# Altium integrated library Grounded clock.IntLib: 54 symbols (part 1 of 2)
Pins are listed as number, name and electrical type; pins without a type are passive.

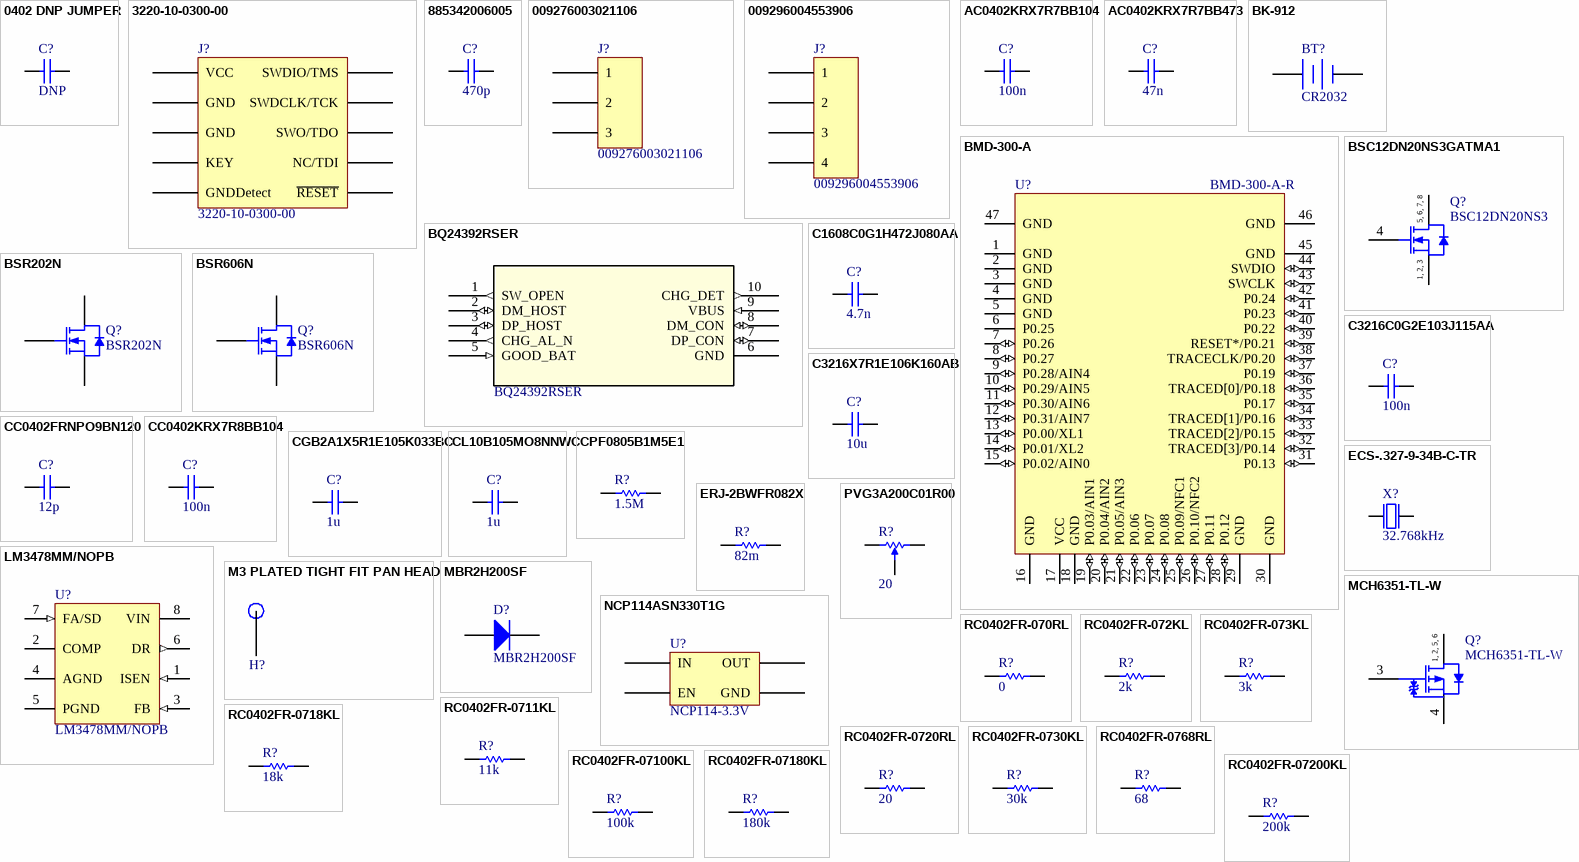
[diagram p0: symbols 0402 DNP JUMPER to RC0402FR-07200KL]

## 0402 DNP JUMPER
designator C?, comment DNP  (no BOM)
footprint CAPC0603(1608)100_N (Chip Capacitor, Body 1.6x0.8mm, Height 1.0mm, IPC Medium Density)
footprint CAPC0603(1608)100_M (Chip Capacitor, Body 1.6x0.8mm, Height 1.0mm, IPC Low Density)
footprint CAPC0603(1608)100_L (Chip Capacitor, Body 1.6x0.8mm, Height 1.0mm, IPC High Density)
pins: 1, 2

## 3220-10-0300-00
designator J?
IDC BOX HEADER 0.050 10 POS; Manufacturer: CNC Tech; Number of Positions: 10; Connector Type: Male Pin; Pitch: 0.05inch; Supplier 1: Digi-Key; Manufacturer Part Number: 3220-10-0300-00; Stock 1: 193314; Pricing 1: 1=0.74, 10=0.69, 100=0.529, 500=0.46, 3200=0.345, 6400=0.3335, 12800=0.3059 (USD); Mount: Surface Mount; Contact Plating: Gold; Package Quantity: 3200; Number of Rows: 2; Packaging: Tray; Termination: Solder; Row Spacing: 0.05inch; ComponentLink1URL: http://cnctech.us/idcmatching2.pdf; ComponentLink1Description: http://cnctech.us/idcmatching2.pdf; Supplier Part Number 1: 1175-1629-ND
footprint 3220-10-0300-00 (IDC BOX HEADER, SMT, 0.050" (1.27MM), 10 CONTACTS)
pins: 1 VCC, 2 SWDIO/TMS, 3 GND, 4 SWDCLK/TCK, 5 GND, 6 SWO/TDO, 7 KEY, 8 NC/TDI, 9 GNDDetect, 10 ~{RESET}

## 885342006005
designator C?, comment 470p
CAP CER 470PF 250V C0G/NP0 0603; Manufacturer: Wurth Electronics Inc.; Manufacturer Part Number: 885342006005; Tolerance: ±5%; Temperature Coefficient: C0G, NP0; Notification: Current market demand for these product types have resulted in fluctuating and extending lead times. Lead times may differ.; Supplier 1: Digi-Key; RoHS: RoHS Compliant; Category: Capacitors; Stock 1: 2818; Pricing 1: 1=0.1, 10=0.088, 100=0.0788, 500=0.0697 (USD); Packaging: Cut Tape (CT); Part Status: Active; Voltage - Rated: 250V; Operating Temperature: -55°C ~ 125°C; Features: -; Ratings: -; Applications: General Purpose; Failure Rate: -; Mounting Type: Surface Mount, MLCC; Package / Case: 0603 (1608 Metric); Size / Dimension: 0.063" L x 0.031" W (1.60mm x 0.80mm); Height - Seated (Max): -; Thickness (Max): 0.037" (0.95mm); Lead Spacing: -; Lead Style: -; ComponentLink1URL: https://katalog.we-online.de/pbs/datasheet/885342006005.pdf; ComponentLink1Description: https://katalog.we-online.de/pbs/datasheet/885342006005.pdf; Supplier Part Number 1: 732-12180-1-ND
footprint CAPC0603(1608)100_L (Chip Capacitor, Body 1.6x0.8mm, Height 1.0mm, IPC High Density)
footprint CAPC0603(1608)100_N (Chip Capacitor, Body 1.6x0.8mm, Height 1.0mm, IPC Medium Density)
footprint CAPC0603(1608)100_M (Chip Capacitor, Body 1.6x0.8mm, Height 1.0mm, IPC Low Density)
pins: 1, 2

## 009276003021106
designator J?
CONN TERM BLOCK 3 POS WTB; Manufacturer: Kyocera; Number of Contacts: 3; Voltage Rating: 250V; Current: 6A; Number of Levels: 1; Gender: Receptacle; Pitch: 2.5mm; Wire Gauge (Max): 24AWG; Wire Gauge (Min): 18AWG; Supplier 1: Digi-Key; Manufacturer Part Number: 009276003021106; Stock 1: 0; Mount: Surface Mount,Through Hole; Housing Colour: White; Contact Material: Copper,Copper Alloy; Contact Plating: Tin; Housing Material: Nylon; Colour: White; Min Operating Temperature: -40°C; Max Operating Temperature: 125°C; Number of Rows: 1; Termination: Solder; Orientation: Right Angle; Packaging: Tape and Reel; Package Quantity: 1; Number of Positions: 3; Voltage: 250V; Number of Positions Per Level: 3; Number of Circuits: 3; Max Supply Voltage (AC): 250V; Max Voltage Rating (AC): 250V; Length: 9mm; Height: 5mm; Depth: 9mm; Width: 7.5mm; Radiation Hardening: No; REACH SVHC: No SVHC; Lead Free: Lead Free; ComponentLink1URL: https://media.digikey.com/pdf/Data%20Sheets/AVX%20PDFs/00927600x021x06_Spec.PDF; ComponentLink1Description: https://media.digikey.com/pdf/Data%20Sheets/AVX%20PDFs/00927600x021x06_Spec.PDF; ComponentLink2URL: http://www.farnell.com/datasheets/2003050.pdf; ComponentLink2Description: http://www.farnell.com/datasheets/2003050.pdf; ComponentLink3URL: http://www.avx.com/docs/Catalogs/9276.pdf; ComponentLink3Description: http://www.avx.com/docs/Catalogs/9276.pdf; ComponentLink4URL: //media.digikey.com/pdf/Data%20Sheets/AVX%20PDFs/00927600x021x06_Spec.PDF; ComponentLink4Description: //media.digikey.com/pdf/Data%20Sheets/AVX%20PDFs/00927600x021x06_Spec.PDF; Supplier Part Number 1: 478-6170-1-ND
footprint 009276003021106 (CONN TERM BLOCK 3 POS WTB)
pins: 1, 2, 3

## 009296004553906
designator J?
Headers & Wire Housings 4WAY POKE HOME VERTICAL TOP MOUNT; Manufacturer: Kyocera AVX; Voltage Rating: 200V; Current Rating: 7A; Number of Positions: 4; Connector Type: Poke-In; Wire Gauge (Max): 26AWG; Wire Gauge (Min): 18AWG; Pitch: 4mm; Cable Pitch: 0.157inch; Supplier 1: Digi-Key; Manufacturer Part Number: 009296004553906; Stock 1: 2302; Pricing 1: 1=1.2, 10=1.057, 100=0.9123 (USD); Mount: Surface Mount; Colour: White; Contact Material: Copper Alloy; Contact Plating: Tin; Housing Material: Nylon; Min Operating Temperature: -40°C; Max Operating Temperature: 125°C; Packaging: Tape and Reel; Package Quantity: 400; Termination: SMD/SMT; Number of Rows: 1; Contact Gender: Female; Wire/Cable Gauge: 18AWG; Lead Free: Lead Free; Flammability Rating: UL94 V-0; ComponentLink1URL: http://datasheets.avx.com/PokeHomeVerticalTop_00-9296.pdf; ComponentLink1Description: http://datasheets.avx.com/PokeHomeVerticalTop_00-9296.pdf; Supplier Part Number 1: 478-9323-1-ND
footprint 009296004553906 (CONN 4POS SMD 18-26AWG)
pins: 1, 2, 3, 4

## AC0402KRX7R7BB104
designator C?, comment 100n
CAP CER 0.1UF 16V X7R 0402; Manufacturer: Yageo; Manufacturer Part Number: AC0402KRX7R7BB104; Tolerance: ±10%; Supplier 1: Digi-Key; RoHS: RoHS Compliant; Category: Capacitors; Stock 1: 29133; Pricing 1: 1=0.1, 10=0.068, 100=0.0304, 500=0.02174, 1000=0.01708, 2500=0.01553, 5000=0.01429 (USD); Packaging: Cut Tape (CT); Part Status: Active; Voltage - Rated: 16V; Temperature Coefficient: X7R; Operating Temperature: -55°C ~ 125°C; Features: -; Ratings: AEC-Q200; Applications: Automotive; Failure Rate: -; Mounting Type: Surface Mount, MLCC; Package / Case: 0402 (1005 Metric); Size / Dimension: 0.039" L x 0.020" W (1.00mm x 0.50mm); Height - Seated (Max): -; Thickness (Max): 0.022" (0.55mm); Lead Spacing: -; Lead Style: -; ComponentLink1URL: http://www.yageo.com/documents/recent/UPY-AC_NP0X7R_16V-to-630V_11.pdf; ComponentLink1Description: http://www.yageo.com/documents/recent/UPY-AC_NP0X7R_16V-to-630V_11.pdf; Supplier Part Number 1: 311-3026-1-ND
footprint CAPC0402(1005)60_N (Chip Capacitor, Body 1.0x0.5mm, Height 0.6mm, IPC Medium Density)
footprint CAPC0402(1005)60_M (Chip Capacitor, Body 1.0x0.5mm, Height 0.6mm, IPC Low Density)
footprint CAPC0402(1005)60_L (Chip Capacitor, Body 1.0x0.5mm, Height 0.6mm, IPC High Density)
pins: 1, 2

## AC0402KRX7R7BB473
designator C?, comment 47n
CAP CER 0.047UF 16V X7R 0402; Manufacturer: Yageo; Manufacturer Part Number: AC0402KRX7R7BB473; Tolerance: ±10%; Supplier 1: Digi-Key; RoHS: RoHS Compliant; Category: Capacitors; Stock 1: 7700; Pricing 1: 1=0.13, 10=0.093, 100=0.0416, 500=0.0297, 1000=0.02334, 2500=0.02122, 5000=0.01952 (USD); Packaging: Cut Tape (CT); Part Status: Active; Voltage - Rated: 16V; Temperature Coefficient: X7R; Operating Temperature: -55°C ~ 125°C; Features: -; Ratings: AEC-Q200; Applications: Automotive; Failure Rate: -; Mounting Type: Surface Mount, MLCC; Package / Case: 0402 (1005 Metric); Size / Dimension: 0.039" L x 0.020" W (1.00mm x 0.50mm); Height - Seated (Max): -; Thickness (Max): 0.022" (0.55mm); Lead Spacing: -; Lead Style: -; ComponentLink1URL: http://www.yageo.com/documents/recent/UPY-AC_NP0X7R_16V-to-630V_11.pdf; ComponentLink1Description: http://www.yageo.com/documents/recent/UPY-AC_NP0X7R_16V-to-630V_11.pdf; Supplier Part Number 1: 311-3064-1-ND
footprint CAPC0402(1005)60_N (Chip Capacitor, Body 1.0x0.5mm, Height 0.6mm, IPC Medium Density)
footprint CAPC0402(1005)60_M (Chip Capacitor, Body 1.0x0.5mm, Height 0.6mm, IPC Low Density)
footprint CAPC0402(1005)60_L (Chip Capacitor, Body 1.0x0.5mm, Height 0.6mm, IPC High Density)
pins: 1, 2

## BK-912
designator BT?, comment CR2032
BATTERY RETAINER COIN 20MM SMD; Manufacturer: Memory Protection Devices; Manufacturer Part Number: BK-912-TR; Number of Cells: 1; Supplier 1: Digi-Key; Stock 1: 39032; Pricing 1: 1=0.73, 10=0.661, 100=0.5138 (USD); Mount: PCB,Surface Mount; Case/Package: SMD/SMT; Package Quantity: 700; Termination: SMD/SMT; ComponentLink1URL: https://media.digikey.com/pdf/Data%20Sheets/Memory%20Protection%20PDFs/Coin_Cell_Guide.pdf; ComponentLink1Description: https://media.digikey.com/pdf/Data%20Sheets/Memory%20Protection%20PDFs/Coin_Cell_Guide.pdf; Supplier Part Number 1: BK-912-CT-ND
footprint BK-912
pins: 1 +, 2 -

## BMD-300-A
designator U?, comment Manufacturer P/N: BMD-300-A-R  (hidden comment: BMD-300)
Bluetooth 4.2 LE Module, nRF52832, 512kB Flash, 64kB RAM; Part Number: BMD-300-A; Manufacturer: Rigado; Internal Antenna: Yes; Protocol: BLE 4.2; RF Freq: 2.4GHz; Added By: Cam N; Size: 14mm x 9.8mm; Height: 1.9mm; Added Date: 10/14/2015
footprint BMD-300 (BMD-300, LGA, 47pin ,1.1mm Pitch, 14mm x 9.8mm)
pins: 1 GND (power), 2 GND (power), 3 GND (power), 4 GND (power), 5 GND (power), 6 P0.25 (power), 7 P0.26 (io), 8 P0.27 (io), 9 P0.28/AIN4 (io), 10 P0.29/AIN5 (io), 11 P0.30/AIN6 (io), 12 P0.31/AIN7 (io), 13 P0.00/XL1 (io), 14 P0.01/XL2 (io), 15 P0.02/AIN0 (io), 16 GND (power), 17 VCC (power), 18 GND (power), 19 P0.03/AIN1 (io), 20 P0.04/AIN2 (io), 21 P0.05/AIN3 (io), 22 P0.06 (io), 23 P0.07 (io), 24 P0.08 (io), 25 P0.09/NFC1 (io), 26 P0.10/NFC2 (io), 27 P0.11 (io), 28 P0.12 (io), 29 GND (power), 30 GND (power), 31 P0.13 (io), 32 TRACED[3]/P0.14 (io), 33 TRACED[2]/P0.15 (io), 34 TRACED[1]/P0.16 (io), 35 P0.17 (io), 36 TRACED[0]/P0.18 (io), 37 P0.19 (io), 38 TRACECLK/P0.20 (io), 39 RESET*/P0.21 (io), 40 P0.22 (io), 41 P0.23 (io), 42 P0.24 (io), 43 SWCLK (io), 44 SWDIO (io), 45 GND (power), 46 GND (power), 47 GND (power)

## BQ24392RSER
designator U?
SPST USB 2.0 High-Speed Switch With Battery Charging Detection; Vendor: Texas Instruments; Built_By: EMA_UL_Team; C: Copyright (C) 2016 Accelerated Designs. All rights reserved; Manufacturer_Part_Number: BQ24392RSER; Value: Value; Type: Type; RefDes: RefDes; Supplier 1: Digi-Key; Supplier Part Number 1: 296-37689-1-ND; Supplier 2: Mouser; Supplier Part Number 2: 595-BQ24392RSER
footprint QFN50P200X150X60-10N
pins: 1 SW_OPEN (out), 2 DM_HOST (io), 3 DP_HOST (io), 4 CHG_AL_N (out), 5 GOOD_BAT (in), 6 GND (power), 7 DP_CON (io), 8 DM_CON (io), 9 VBUS (in), 10 CHG_DET (out)

## BSC12DN20NS3GATMA1
designator Q?, comment BSC12DN20NS3
MOSFET N-CH 200V 11.3A; Manufacturer: Infineon; Manufacturer Part Number: BSC12DN20NS3GATMA1; Gate to Source Voltage (Vgs): 20V; Rise Time: 4ns; Turn-On Delay Time: 6ns; Turn-Off Delay Time: 10ns; Fall Time: 3ns; ComponentLink1Description: http://www.infineon.com/dgdl/BSC12DN20NS3+Rev2.2.pdf?folderId=db3a304325305e6d012596c6ca7b290a&fileId=db3a30432ad629a6012b146334d419ec; ComponentLink1URL: http://www.infineon.com/dgdl/BSC12DN20NS3+Rev2.2.pdf?folderId=db3a304325305e6d012596c6ca7b290a&fileId=db3a30432ad629a6012b146334d419ec; Supplier 1: Mouser; Stock 1: 394; Pricing 1: 1=1.17, 10=0.997, 50=0.997, 100=0.766, 1000=0.534, 10000=0.456 (USD); Mount: Surface Mount; Number of Pins: 8; Min Operating Temperature: -55°C; Max Operating Temperature: 150°C; Continuous Drain Current (ID): 11.3A; Max Dual Supply Voltage: 200V; Drain to Source Voltage (Vdss): 200V; Lead Free: Contains Lead; Halogen Free: Halogen Free; Supplier 2: Mouser; Supplier Part Number 1: 726-BSC12DN20NS3GATM; Supplier Part Number 2: 726-BSC12DN20NS3G
footprint INF-PG-TDSON-8-1_V (TDSON, 8-Leads, Body 6.15x5.15mm, Pitch 1.27mm)
pins: 1 SOURCE, 2 SOURCE, 3 SOURCE, 4 GATE, 5 DRAIN, 6 DRAIN, 7 DRAIN, 8 DRAIN
text: 5, 6, 7, 8; 1, 2, 3

## BSR202N
designator Q?
Trans MOSFET N-CH 20V 3.8A 3-Pin SC-59 T/R; Manufacturer: Infineon; Manufacturer Part Number: BSR202NL6327HTSA1; Gate to Source Voltage (Vgs): 12V; Rise Time: 16.7ns; ComponentLink1URL: http://www.infineon.com/dgdl/BSR202N_Rev1.05.pdf?folderId=db3a3043156fd573011622e10b5c1f67&fileId=db3a3043156fd573011622e5576e1f72; ComponentLink1Description: http://www.infineon.com/dgdl/BSR202N_Rev1.05.pdf?folderId=db3a3043156fd573011622e10b5c1f67&fileId=db3a3043156fd573011622e5576e1f72; Supplier 1: Digi-Key; Supplier Part Number 1: BSR202NL6327HTSA1CT-ND; Supplier 2: Mouser; Supplier Part Number 2: 726-BSR202NL6327; Stock 1: 17256; Pricing 1: 1=0.54, 10=0.455, 100=0.3416, 500=0.25052, 1000=0.19358 (USD); Mount: Surface Mount; Case/Package: SC; Number of Pins: 3; Contact Plating: Tin; Min Operating Temperature: -55°C; Max Operating Temperature: 150°C; Continuous Drain Current (ID): 3.8A; Drain to Source Voltage (Vdss): 20V; Max Dual Supply Voltage: 20V
footprint INF-PG-SC59_N (SOT23, 3-Leads, Body 3x1.53mm, Pitch 0.95mm, IPC Medium Density)
footprint INF-PG-SC59_M (SOT23, 3-Leads, Body 3x1.53mm, Pitch 0.95mm, IPC Low Density)
footprint INF-PG-SC59_L (SOT23, 3-Leads, Body 3x1.53mm, Pitch 0.95mm, IPC High Density)
pins: 1 GATE, 2 SOURCE, 3 DRAIN

## BSR606N
designator Q?
N-Channel OptiMOS(TM)-3 Small-Signal-Transistor, 60 V VDS, 2.3 A ID, -55 to 150 degC, PG-SC59, Reel, Green; Manufacturer: Infineon; Manufacturer Part Number: BSR606NH6327XTSA1; ID (max): 2.3Â A; IDpuls (max): 9.1Â A; RthJA (max): 250Â K/W; VDS (max): 60Â V; Green: TRUE; Polarity: FALSE; Ptot (max): 0.5Â W; VGS(th) (min): 1.3Â V; QG: 3.7Â nC; VGS(th) (max): 2.3Â V; Mode: Enhancement; Continuous Drain Current (ID): 2.3A; Drain to Source Voltage (Vdss): 60V; Drain to Source Resistance: 60mR; Max Power Dissipation: 500mW; Input Capacitance: 657pF; Number of Elements: 1; Threshold Voltage: 1.8V; Element Configuration: Single; Gate to Source Voltage (Vgs): 20V; ComponentLink2URL: http://www.infineon.com/dgdl/BSR606N_2+3.pdf?folderId=db3a3043156fd573011622e10b5c1f67&fileId=db3a30433e78ea82013e7ea9a659062b; PackageDescription: 3-Pin Semiconductor Package, 3 x 1.53 mm Body, 0.95 mm Pitch; ComponentLink1Description: Manufacturer URL; PackageVersion: Mar-08; Packing: Reel; PartNumber: BSR606N; DatasheetVersion: Rev. 2.3; ComponentLink1URL: http://www.infineon.com/; ComponentLink2Description: Datasheet; ComponentLink3Description: Package Specification; Mounting: SMD; Mounting Technology: Surface Mount; PackageReference: PG-SC59; ComponentLink3URL: http://www.infineon.com/dgdl/SC59-Package_Overview.pdf?folderId=db3a30431936bc4b01194dc0d34440b0&fileId=db3a30431936bc4b01194dd1aa1d40cf; Halogen-free: TRUE; Supplier 1: Digi-Key; Stock 1: 131; Pricing 1: 1=0.61, 10=0.517, 100=0.3875, 500=0.28416, 1000=0.21958 (USD); Mount: Surface Mount; Case/Package: SC; Number of Pins: 59; Min Operating Temperature: -55°C; Max Operating Temperature: 150°C; Packaging: Tape and Reel; Package Quantity: 3000; Rds On Max: 60mR; Power Dissipation: 500mW; Max Dual Supply Voltage: 60V; REACH SVHC: No SVHC; Lead Free: Lead Free; Halogen Free: Halogen Free; Supplier Part Number 1: BSR606NH6327XTSA1CT-ND
footprint INF-PG-SC59_L (SOT23, 3-Leads, Body 3x1.53mm, Pitch 0.95mm, IPC High Density)
footprint INF-PG-SC59_M (SOT23, 3-Leads, Body 3x1.53mm, Pitch 0.95mm, IPC Low Density)
footprint INF-PG-SC59_N (SOT23, 3-Leads, Body 3x1.53mm, Pitch 0.95mm, IPC Medium Density)
pins: 1 GATE, 2 SOURCE, 3 DRAIN

## C1608C0G1H472J080AA
designator C?, comment 4.7n
CAP CER 4700PF 50V C0G 0603; Supplier 1: Digi-Key; Supplier 2: Mouser; Supplier Part Number 1: 445-7400-1-ND; Supplier Part Number 2: 810-C1608C0G1H472J
footprint CAPC0603(1608)100_N (Chip Capacitor, Body 1.6x0.8mm, Height 1.0mm, IPC Medium Density)
footprint CAPC0603(1608)100_M (Chip Capacitor, Body 1.6x0.8mm, Height 1.0mm, IPC Low Density)
footprint RESC0603(1608)_L (Chip Resistor, Body 1.6x0.8mm, IPC High Density)
pins: 1, 2

## C3216C0G2E103J115AA
designator C?, comment 100n
CAP CER 10000PF 250V C0G 1206; Manufacturer: TDK Corporation; Manufacturer Part Number: C3216C0G2E103J115AA; Tolerance: ±5%; Temperature Coefficient: C0G, NP0; Notification: Current market demand for these product types have resulted in fluctuating and extending lead times. Lead times may differ.; Supplier 1: Digi-Key; RoHS: RoHS Compliant; Category: Capacitors; Stock 1: 8104; Pricing 1: 1=0.62, 10=0.431, 100=0.2588, 500=0.19406, 1000=0.16388 (USD); Packaging: Cut Tape (CT); Part Status: Active; Voltage - Rated: 250V; Operating Temperature: -55°C ~ 125°C; Features: -; Ratings: -; Applications: General Purpose; Failure Rate: -; Mounting Type: Surface Mount, MLCC; Package / Case: 1206 (3216 Metric); Size / Dimension: 0.126" L x 0.063" W (3.20mm x 1.60mm); Height - Seated (Max): -; Thickness (Max): 0.051" (1.30mm); Lead Spacing: -; Lead Style: -; ComponentLink1URL: https://product.tdk.com/info/en/catalog/datasheets/mlcc_commercial_midvoltage_en.pdf; ComponentLink1Description: https://product.tdk.com/info/en/catalog/datasheets/mlcc_commercial_midvoltage_en.pdf; Supplier Part Number 1: 445-15417-1-ND
footprint CAPC1206(3216)110_L (Chip Capacitor, Body 3.2x1.6mm, Height 1.1mm, IPC High Density)
footprint CAPC1206(3216)110_M (Chip Capacitor, Body 3.2x1.6mm, Height 1.1mm, IPC Low Density)
footprint CAPC1206(3216)110_N (Chip Capacitor, Body 3.2x1.6mm, Height 1.1mm, IPC Medium Density)
pins: 1, 2

## C3216X7R1E106K160AB
designator C?, comment 10u
CAP CER 10UF 25V X7R 1206; Manufacturer: TDK Corporation; Manufacturer Part Number: C3216X7R1E106K160AB; Tolerance: ±10%; Notification: Current market demand for these product types have resulted in fluctuating and extending lead times. Lead times may differ.; Supplier 1: Digi-Key; RoHS: RoHS Compliant; Category: Capacitors; Stock 1: 20000; Pricing 1: 1=0.83, 10=0.589, 100=0.3881, 500=0.2875, 1000=0.24438 (USD); Packaging: Cut Tape (CT); Part Status: Active; Voltage - Rated: 25V; Temperature Coefficient: X7R; Operating Temperature: -55°C ~ 125°C; Features: Low ESL; Ratings: -; Applications: General Purpose; Failure Rate: -; Mounting Type: Surface Mount, MLCC; Package / Case: 1206 (3216 Metric); Size / Dimension: 0.126" L x 0.063" W (3.20mm x 1.60mm); Height - Seated (Max): -; Thickness (Max): 0.075" (1.90mm); Lead Spacing: -; Lead Style: -; ComponentLink1URL: https://product.tdk.com/info/en/catalog/datasheets/mlcc_commercial_general_en.pdf; ComponentLink1Description: https://product.tdk.com/info/en/catalog/datasheets/mlcc_commercial_general_en.pdf; Supplier Part Number 1: 445-7705-1-ND; Supplier 2: Mouser; Supplier Part Number 2: 810-C3216X7R1E106K
footprint CAPC1206(3216)190_L (Chip Capacitor, Body 3.2x1.6mm, Height 1.9mm, IPC High Density)
footprint CAPC1206(3216)190_M (Chip Capacitor, Body 3.2x1.6mm, Height 1.9mm, IPC Low Density)
footprint CAPC1206(3216)190_N (Chip Capacitor, Body 3.2x1.6mm, Height 1.9mm, IPC Medium Density)
pins: 1, 2

## CC0402FRNPO9BN120
designator C?, comment 12p
CAP CER 12PF 50V C0G/NPO 0402; Manufacturer: Yageo; Manufacturer Part Number: CC0402FRNPO9BN120; Tolerance: ±1%; Temperature Coefficient: C0G, NP0; Notification: Current market demand for these product types have resulted in fluctuating and extending lead times. Lead times may differ.; Supplier 1: Digi-Key; RoHS: RoHS Compliant; Category: Capacitors; Stock 1: 100000; Pricing 1: 1=0.14, 10=0.104, 100=0.0464, 500=0.03312, 1000=0.02603, 2500=0.02366, 5000=0.02177 (USD); Packaging: Cut Tape (CT); Part Status: Active; Voltage - Rated: 50V; Operating Temperature: -55°C ~ 125°C; Features: -; Ratings: -; Applications: General Purpose; Failure Rate: -; Mounting Type: Surface Mount, MLCC; Package / Case: 0402 (1005 Metric); Size / Dimension: 0.039" L x 0.020" W (1.00mm x 0.50mm); Height - Seated (Max): -; Thickness (Max): 0.022" (0.55mm); Lead Spacing: -; Lead Style: -; ComponentLink1URL: http://www.yageo.com/documents/recent/UPY-GP_NP0_16V-to-50V_16.pdf; ComponentLink1Description: http://www.yageo.com/documents/recent/UPY-GP_NP0_16V-to-50V_16.pdf; Supplier Part Number 1: 311-1641-1-ND
footprint CAPC0402(1005)60_N (Chip Capacitor, Body 1.0x0.5mm, Height 0.6mm, IPC Medium Density)
footprint CAPC0402(1005)60_M (Chip Capacitor, Body 1.0x0.5mm, Height 0.6mm, IPC Low Density)
footprint CAPC0402(1005)60_L (Chip Capacitor, Body 1.0x0.5mm, Height 0.6mm, IPC High Density)
pins: 1, 2

## CC0402KRX7R8BB104
designator C?, comment 100n
CAP CER 0.1UF 25V X7R 0402; Manufacturer: Yageo; Manufacturer Part Number: CC0402KRX7R8BB104; Tolerance: ±10%; Notification: Current market demand for these product types have resulted in fluctuating and extending lead times. Lead times may differ.; Supplier 1: Digi-Key; RoHS: RoHS Compliant; Category: Capacitors; Stock 1: 0; Pricing 1: 1=0.1, 10=0.048, 100=0.0215, 500=0.01534, 1000=0.01205, 2500=0.01095, 5000=0.01007 (USD); Packaging: Cut Tape (CT); Part Status: Active; Voltage - Rated: 25V; Temperature Coefficient: X7R; Operating Temperature: -55°C ~ 125°C; Features: -; Ratings: -; Applications: General Purpose; Failure Rate: -; Mounting Type: Surface Mount, MLCC; Package / Case: 0402 (1005 Metric); Size / Dimension: 0.039" L x 0.020" W (1.00mm x 0.50mm); Height - Seated (Max): -; Thickness (Max): 0.022" (0.55mm); Lead Spacing: -; Lead Style: -; ComponentLink1URL: http://www.yageo.com/documents/recent/UPY-GPHC_X7R_6.3V-to-50V_18.pdf; ComponentLink1Description: http://www.yageo.com/documents/recent/UPY-GPHC_X7R_6.3V-to-50V_18.pdf; Supplier Part Number 1: 311-2077-1-ND; Supplier 2: Mouser; Supplier Part Number 2: 603-CC402KRX7R8BB104
footprint CAPC0402(1005)33_L (Chip Capacitor, Body 1.0x0.5mm, Height 0.33mm, IPC High Density)
footprint CAPC0402(1005)33_M (Chip Capacitor, Body 1.0x0.5mm, Height 0.33mm, IPC Low Density)
footprint CAPC0402(1005)33_N (Chip Capacitor, Body 1.0x0.5mm, Height 0.33mm, IPC Medium Density)
pins: 1, 2

## CGB2A1X5R1E105K033BC
designator C?, comment 1u
CAP CER 1UF 25V X5R 0402; Supplier 1: Digi-Key; Supplier 2: Mouser; Supplier Part Number 1: 445-13185-1-ND; Supplier Part Number 2: 810-CGB2A1X5R1E105BC
footprint CAPC0402(1005)33_L (Chip Capacitor, Body 1.0x0.5mm, Height 0.33mm, IPC High Density)
footprint CAPC0402(1005)33_M (Chip Capacitor, Body 1.0x0.5mm, Height 0.33mm, IPC Low Density)
footprint CAPC0402(1005)33_N (Chip Capacitor, Body 1.0x0.5mm, Height 0.33mm, IPC Medium Density)
pins: 1, 2

## CL10B105MO8NNWC
designator C?, comment 1u
CAP CER 1UF 16V X7R 0603; Manufacturer: Samsung Electro-Mechanics; Manufacturer Part Number: CL10B105MO8NNWC; Tolerance: ±20%; Notification: Current market demand for these product types have resulted in fluctuating and extending lead times. Lead times may differ.; Supplier 1: Digi-Key; RoHS: RoHS Compliant; Category: Capacitors; Stock 1: 40000; Pricing 1: 1=0.1, 10=0.043, 100=0.0194, 500=0.01406, 1000=0.01121 (USD); Packaging: Cut Tape (CT); Part Status: Active; Voltage - Rated: 16V; Temperature Coefficient: X7R; Operating Temperature: -55°C ~ 125°C; Features: -; Ratings: -; Applications: General Purpose; Mounting Type: Surface Mount, MLCC; Package / Case: 0603 (1608 Metric); Size / Dimension: 0.063" L x 0.031" W (1.60mm x 0.80mm); Height - Seated (Max): -; Thickness (Max): 0.035" (0.90mm); Lead Spacing: -; Lead Style: -; ComponentLink1URL: http://www.samsungsem.com/kr/support/product-search/mlcc/CL10B105MO8NNWC.jsp; ComponentLink1Description: http://www.samsungsem.com/kr/support/product-search/mlcc/CL10B105MO8NNWC.jsp; Supplier Part Number 1: 1276-6524-1-ND
footprint CAPC0603(1608)100_L (Chip Capacitor, Body 1.6x0.8mm, Height 1.0mm, IPC High Density)
footprint CAPC0603(1608)100_M (Chip Capacitor, Body 1.6x0.8mm, Height 1.0mm, IPC Low Density)
footprint CAPC0603(1608)100_N (Chip Capacitor, Body 1.6x0.8mm, Height 1.0mm, IPC Medium Density)
pins: 1, 2

## CPF0805B1M5E1
designator R?, comment 1.5M
RES SMD 1.5M OHM 0.1% 1/10W 0805; Manufacturer: TE Connectivity Passive Product; Manufacturer Part Number: CPF0805B1M5E1; Power (Watts): 0.1W, 1/10W; Temperature Coefficient: ±25ppm/°C; Supplier 1: Digi-Key; RoHS: RoHS Compliant; Category: Resistors; Stock 1: 27374; Pricing 1: 1=0.55, 10=0.394, 100=0.2047 (USD); Packaging: Cut Tape (CT); Part Status: Active; Tolerance: ±0.1%; Composition: Thin Film; Features: -; Operating Temperature: -55°C ~ 155°C; Package / Case: 0805 (2012 Metric); Supplier Device Package: 0805; Size / Dimension: 0.079" L x 0.049" W (2.00mm x 1.25mm); Height - Seated (Max): 0.026" (0.65mm); Failure Rate: -; ComponentLink1URL: http://www.te.com/commerce/DocumentDelivery/DDEController?Action=srchrtrv&DocNm=1773200&DocType=DS&DocLang=English; ComponentLink1Description: http://www.te.com/commerce/DocumentDelivery/DDEController?Action=srchrtrv&DocNm=1773200&DocType=DS&DocLang=English; Supplier Part Number 1: A103799CT-ND; Supplier 2: Mouser; Supplier Part Number 2: 279-CPF0805B1M5E1
footprint RESC0805(2012)_L (Chip Resistor, Body 2.0x1.3mm, IPC High Density)
footprint RESC0805(2012)_N (Chip Resistor, Body 2.0x1.3mm, IPC Medium Density)
footprint RESC0805(2012)_M (Chip Resistor, Body 2.0x1.3mm, IPC Low Density)
pins: 1, 2

## ECS-.327-9-34B-C-TR
designator X?, comment 32.768kHz
CRYSTAL 32.7680KHZ 9PF SMD; Manufacturer: ECS International; Manufacturer Part Number: ECS-.327-9-34B-C-TR; Frequency Tolerance: 10ppm; ESR (Equivalent Series Resistance): 70kR; Supplier 1: Digi-Key; Supplier Part Number 1: XC1949CT-ND; Mount: Surface Mount; Case/Package: SMD/SMT; Number of Pins: 2; Min Operating Temperature: -40°C; Max Operating Temperature: 85°C; Load Capacitance: 9pF; Package Quantity: 3000; Packaging: Tape and Reel; Frequency: 32.768kHz; Termination: SMD/SMT; Frequency Stability: 10ppm; Length: 0.126inch; Height: 0.035inch; Width: 0.061inch; Lead Pitch: 2.4mm; ComponentLink1URL: http://www.ecsxtal.com/store/pdf/ecx-31b.pdf; ComponentLink1Description: http://www.ecsxtal.com/store/pdf/ecx-31b.pdf; Supplier 2: Mouser; Supplier Part Number 2: 520-ECS-.327-9-34BCT
footprint 3215 XTAL
pins: 1, 2

## ERJ-2BWFR082X
designator R?, comment 82m
RES 0.082 OHM 1% 1/4W 0402; Manufacturer: Panasonic Electronic Components; Manufacturer Part Number: ERJ-2BWFR082X; Power (Watts): 0.25W, 1/4W; Temperature Coefficient: ±300ppm/°C; Supplier 1: Digi-Key; Supplier 2: Mouser; Supplier Part Number 1: P.082ATCT-ND; Supplier Part Number 2: 667-ERJ-2BWFR082X; RoHS: RoHS Compliant; Category: Resistors; Stock 1: 24659; Pricing 1: 1=0.57, 10=0.436, 25=0.3316, 50=0.2464, 100=0.1832, 250=0.1548, 500=0.13268, 1000=0.10109, 5000=0.08529 (USD); Packaging: Cut Tape (CT); Part Status: Active; Tolerance: ±1%; Composition: Thick Film; Features: Current Sense; Operating Temperature: -55°C ~ 155°C; Package / Case: 0402 (1005 Metric); Supplier Device Package: 0402; Size / Dimension: 0.039" L x 0.020" W (1.00mm x 0.50mm); Height - Seated (Max): 0.016" (0.40mm); Failure Rate: -; ComponentLink1URL: https://industrial.panasonic.com/cdbs/www-data/pdf/RDN0000/AOA0000C313.pdf; ComponentLink1Description: https://industrial.panasonic.com/cdbs/www-data/pdf/RDN0000/AOA0000C313.pdf
footprint RESC0402(1005)_L (Chip Resistor, Body 1.0x0.5mm, IPC High Density)
footprint RESC0402(1005)_M (Chip Resistor, Body 1.0x0.5mm, IPC Low Density)
footprint RESC0402(1005)_N (Chip Resistor, Body 1.0x0.5mm, IPC Medium Density)
pins: 1, 2

## LM3478MM/NOPB
designator U?
TEXAS INSTRUMENTS   LM3478MM/NOPB.   N-CHANNEL CONTROLLER, MSOP-8, FULL REEL; Output Voltage: 1.26V; Output Current: 1A; Switching Frequency: 1MHz; Number of Outputs: 1; Max Duty Cycle: 100%; Quiescent Current: 2.7mA; Frequency: 400kHz; Min Supply Voltage: 2.97V; Max Supply Voltage: 40V; Max Output Current: 2A; Topology: Boost,Flyback; Max Output Voltage: 5V; Output Type: Adjustable; ComponentLink1Description: https://www.verical.com/server-webapp/html/getDatasheet?partID=123464; Manufacturer: Texas Instruments; ComponentLink1URL: https://www.verical.com/server-webapp/html/getDatasheet?partID=123464; Supplier 1: Digi-Key; Supplier Part Number 1: LM3478MM/NOPBCT-ND; Supplier 2: Mouser; Supplier Part Number 2: 926-LM3478MM/NOPB; Manufacturer Part Number: LM3478MM/NOPB; Stock 1: 61350; Pricing 1: 1=2.21, 10=1.982, 100=1.5928, 500=1.30862 (USD); Mount: Surface Mount; Case/Package: MSOP; Number of Pins: 8; Contact Plating: Matte,Tin; Min Operating Temperature: -40°C; Max Operating Temperature: 125°C; Packaging: Tape and Reel; Package Quantity: 1000; Max Frequency: 1MHz; Duty Cycle: 100%; Max Input Voltage: 40V; Min Input Voltage: 2.97V; Termination: SMD/SMT; Length: 3mm; Height: 0.86mm; Width: 3mm; Radiation Hardening: No; Lead Free: Lead Free; REACH SVHC: No SVHC; ComponentLink2URL: http://www.ti.com/general/docs/lit/getliterature.tsp?genericPartNumber=LM3478&fileType=pdf; ComponentLink2Description: http://www.ti.com/general/docs/lit/getliterature.tsp?genericPartNumber=LM3478&fileType=pdf; ComponentLink3URL: http://www.ti.com/lit/ds/symlink/lm3478.pdf; ComponentLink3Description: http://www.ti.com/lit/ds/symlink/lm3478.pdf; ComponentLink4URL: https://www.distrelec.com/ishop/Datasheets/lm3478_eng_tds.pdf; ComponentLink4Description: https://www.distrelec.com/ishop/Datasheets/lm3478_eng_tds.pdf
footprint DGK0008A_N (TSOP, 8-Leads, Body 3.1x3.1mm, Pitch 0.65mm, IPC Medium Density)
footprint DGK0008A_M (TSOP, 8-Leads, Body 3.1x3.1mm, Pitch 0.65mm, IPC Low Density)
footprint DGK0008A_L (TSOP, 8-Leads, Body 3.1x3.1mm, Pitch 0.65mm, IPC High Density)
pins: 1 ISEN (in), 2 COMP, 3 FB (in), 4 AGND (power), 5 PGND (power), 6 DR (out), 7 FA/SD (in), 8 VIN (power)

## M3 PLATED TIGHT FIT PAN HEAD
designator H?  (value not drawn)  (no BOM)
M3 x 0.5mm plated tight fit pan head
footprint M3 PLATED TIGHT PAN HEAD (M3 x 0.5mm plated tight fit pan head)
pins: 1

## MBR2H200SF
designator D?
DIODE SCHOTTKY 200V 2A SOD123; Supplier 1: Digi-Key; Supplier 2: Mouser; Supplier Part Number 1: MBR2H200SFT3GOSCT-ND; Supplier Part Number 2: 863-MBR2H200SFT1G
footprint SOD-123FL; pin to pad 1>A 2>K
pins: 1 A, 2 K

## MCH6351-TL-W
designator Q?
MOSFET PCH 1.8V DRIVE SERIES; Manufacturer: ON Semiconductor; Rise Time: 89ns; Drain to Source Voltage (Vdss): 12V; Continuous Drain Current (ID): 9A; Rds On Max: 16.9mR; Input Capacitance: 2.2nF; Max Power Dissipation: 1.5W; Number of Channels: 1; Turn-On Delay Time: 12.3ns; Turn-Off Delay Time: 260ns; Fall Time: 122ns; Drain to Source Breakdown Voltage: -12V; Gate to Source Voltage (Vgs): 10V; Element Configuration: Single; ComponentLink2Description: http://www.mouser.com/ds/2/308/ENA2198-D-278502.pdf; ComponentLink1Description: http://www.onsemi.com/pub_link/Collateral/ENA2198-D.PDF; ComponentLink1URL: http://www.onsemi.com/pub_link/Collateral/ENA2198-D.PDF; ComponentLink2URL: http://www.mouser.com/ds/2/308/ENA2198-D-278502.pdf; Supplier 1: Digi-Key; Supplier Part Number 1: MCH6351-TL-WOSCT-ND; Supplier 2: Mouser; Supplier Part Number 2: 863-MCH6351-TL-W; Manufacturer Part Number: MCH6351-TL-W; Stock 1: 2960; Pricing 1: 1=0.59, 10=0.499, 100=0.3739, 500=0.27418, 1000=0.21187 (USD); Case/Package: SMD/SMT; Number of Pins: 6; Weight: 0.000265oz; Min Operating Temperature: -55°C; Max Operating Temperature: 150°C; Package Quantity: 3000; Packaging: Tape and Reel; Drain to Source Resistance: 16.9mR; Radiation Hardening: No; Lead Free: Lead Free; Halogen Free: Halogen Free
footprint SOT23-6P65_210X90L25X32
pins: 1 D, 2 D, 3 G, 4 S, 5 D, 6 D
text: 1, 2, 5, 6

## NCP114ASN330T1G
designator U?, comment NCP114-3.3V
IC REG LINEAR 3.3V 300MA 5TSOP; Manufacturer: ON Semiconductor; Manufacturer Part Number: NCP114ASN330T1G; Supplier 1: Digi-Key; Supplier Part Number 1: NCP114ASN330T1GOSCT-ND; Stock 1: 16190; Pricing 1: 1=0.35, 10=0.264, 100=0.1493, 500=0.09888, 1000=0.07581 (USD); Output Current: 300mA; Lead Free: Lead Free; Supplier 2: Mouser; Supplier Part Number 2: 863-NCP114ASN330T1G
footprint TSOP-5 (SOP, 5-Leads, Body 3x1.5mm, Pitch 0.95mm)
pins: 1 IN, 2 GND, 3 EN, 5 OUT

## PVG3A200C01R00
designator R?, comment 20
TRIMMER 20 OHM 0.25W J LEAD TOP; Manufacturer: Bourns Inc.; Manufacturer Part Number: PVG3A200C01R00; Power (Watts): 0.25W, 1/4W; Tolerance: ±20%; Temperature Coefficient: ±150ppm/°C; Adjustment Type: Top Adjustment; Resistive Material: Cermet; Supplier 1: Digi-Key; RoHS: RoHS Compliant; Category: Potentiometers, Variable Resistors; Stock 1: 42863; Pricing 1: 1=1.57, 10=1.386, 25=1.2476, 50=1.2012, 100=1.155, 250=1.08572, 500=0.924 (USD); Packaging: Cut Tape (CT); Part Status: Active; Mounting Type: Surface Mount; Termination Style: J Lead; Size / Dimension: Rectangular - 0.142" x 0.134" Face x 0.079" H (3.60mm x 3.40mm x 2.00mm); ComponentLink1URL: https://www.bourns.com/docs/Product-Datasheets/pvg3.pdf; ComponentLink1Description: https://www.bourns.com/docs/Product-Datasheets/pvg3.pdf; Supplier Part Number 1: 490-2647-1-ND
footprint PVG3A (SMD Sealed Type Single-Turn PVG3)
pins: 1, 2, 3

## RC0402FR-070RL
designator R?, comment 0
RES SMD 0 OHM JUMPER 1/16W 0402; Manufacturer: Yageo; Manufacturer Part Number: RC0402FR-070RL; Power (Watts): 0.063W, 1/16W; Supplier 1: Digi-Key; RoHS: RoHS Compliant; Category: Resistors; Stock 1: 0; Pricing 1: 1=0.1, 10=0.016, 25=0.0116, 50=0.0088, 100=0.0065, 250=0.00496, 500=0.00396, 1000=0.00292, 5000=0.00209 (USD); Packaging: Cut Tape (CT); Part Status: Active; Tolerance: Jumper; Composition: Thick Film; Features: Moisture Resistant; Temperature Coefficient: -; Operating Temperature: -55°C ~ 155°C; Package / Case: 0402 (1005 Metric); Supplier Device Package: 0402; Size / Dimension: 0.039" L x 0.020" W (1.00mm x 0.50mm); Height - Seated (Max): 0.016" (0.40mm); Failure Rate: -; ComponentLink1URL: http://www.yageo.com/documents/recent/PYu-RC_Group_51_RoHS_L_9.pdf; ComponentLink1Description: http://www.yageo.com/documents/recent/PYu-RC_Group_51_RoHS_L_9.pdf; Supplier Part Number 1: 311-0.0LRCT-ND; Supplier 2: Mouser; Supplier Part Number 2: 603-RC0402FR-070RL
footprint RESC0402(1005)_L (Chip Resistor, Body 1.0x0.5mm, IPC High Density)
footprint RESC0402(1005)_M (Chip Resistor, Body 1.0x0.5mm, IPC Low Density)
footprint RESC0402(1005)_N (Chip Resistor, Body 1.0x0.5mm, IPC Medium Density)
pins: 1, 2

## RC0402FR-072KL
designator R?, comment 2k
RES SMD 2K OHM 1% 1/16W 0402; Manufacturer: Yageo; Manufacturer Part Number: RC0402FR-072KL; Power (Watts): 0.063W, 1/16W; Temperature Coefficient: ±100ppm/°C; Supplier 1: Digi-Key; RoHS: RoHS Compliant; Category: Resistors; Stock 1: 8929494; Pricing 1: 1=0.1, 10=0.018, 100=0.0076, 1000=0.00356, 2500=0.00313, 5000=0.00263 (USD); Packaging: Cut Tape (CT); Part Status: Active; Tolerance: ±1%; Composition: Thick Film; Features: Moisture Resistant; Operating Temperature: -55°C ~ 155°C; Package / Case: 0402 (1005 Metric); Supplier Device Package: 0402; Size / Dimension: 0.039" L x 0.020" W (1.00mm x 0.50mm); Height - Seated (Max): 0.016" (0.40mm); Failure Rate: -; ComponentLink1URL: http://www.yageo.com/documents/recent/PYu-RC_Group_51_RoHS_L_9.pdf; ComponentLink1Description: http://www.yageo.com/documents/recent/PYu-RC_Group_51_RoHS_L_9.pdf; Supplier Part Number 1: 311-2KLRCT-ND
footprint RESC0402(1005)_N (Chip Resistor, Body 1.0x0.5mm, IPC Medium Density)
footprint RESC0402(1005)_M (Chip Resistor, Body 1.0x0.5mm, IPC Low Density)
footprint RESC0402(1005)_L (Chip Resistor, Body 1.0x0.5mm, IPC High Density)
pins: 1, 2

## RC0402FR-073KL
designator R?, comment 3k
RES SMD 3K OHM 1% 1/16W 0402; Manufacturer: Yageo; Manufacturer Part Number: RC0402FR-073KL; Power (Watts): 0.063W, 1/16W; Temperature Coefficient: ±100ppm/°C; Supplier 1: Digi-Key; RoHS: RoHS Compliant; Category: Resistors; Stock 1: 3701800; Pricing 1: 1=0.1, 10=0.018, 100=0.0076, 1000=0.00356, 2500=0.00313, 5000=0.00263 (USD); Packaging: Cut Tape (CT); Part Status: Active; Tolerance: ±1%; Composition: Thick Film; Features: Moisture Resistant; Operating Temperature: -55°C ~ 155°C; Package / Case: 0402 (1005 Metric); Supplier Device Package: 0402; Size / Dimension: 0.039" L x 0.020" W (1.00mm x 0.50mm); Height - Seated (Max): 0.016" (0.40mm); Failure Rate: -; ComponentLink1URL: http://www.yageo.com/documents/recent/PYu-RC_Group_51_RoHS_L_9.pdf; ComponentLink1Description: http://www.yageo.com/documents/recent/PYu-RC_Group_51_RoHS_L_9.pdf; Supplier Part Number 1: 311-3KLRCT-ND
footprint RESC0402(1005)_L (Chip Resistor, Body 1.0x0.5mm, IPC High Density)
footprint RESC0402(1005)_M (Chip Resistor, Body 1.0x0.5mm, IPC Low Density)
footprint RESC0402(1005)_N (Chip Resistor, Body 1.0x0.5mm, IPC Medium Density)
pins: 1, 2

## RC0402FR-0711KL
designator R?, comment 11k
RES SMD 11K OHM 1% 1/16W 0402; Manufacturer: Yageo; Manufacturer Part Number: RC0402FR-0711KL; Power (Watts): 0.063W, 1/16W; Temperature Coefficient: ±100ppm/°C; Supplier 1: Digi-Key; RoHS: RoHS Compliant; Category: Resistors; Stock 1: 10146; Pricing 1: 1=0.1, 10=0.021, 100=0.0083, 1000=0.00375, 2500=0.00325, 5000=0.00269 (USD); Packaging: Cut Tape (CT); Part Status: Active; Tolerance: ±1%; Composition: Thick Film; Features: Moisture Resistant; Operating Temperature: -55°C ~ 155°C; Package / Case: 0402 (1005 Metric); Supplier Device Package: 0402; Size / Dimension: 0.039" L x 0.020" W (1.00mm x 0.50mm); Height - Seated (Max): 0.016" (0.40mm); Failure Rate: -; ComponentLink1URL: http://www.yageo.com/documents/recent/PYu-RC_Group_51_RoHS_L_9.pdf; ComponentLink1Description: http://www.yageo.com/documents/recent/PYu-RC_Group_51_RoHS_L_9.pdf; Supplier Part Number 1: 311-11.0KLRCT-ND; Supplier 2: Mouser; Supplier Part Number 2: 603-RC0402FR-0711KL
footprint RESC0402(1005)_L (Chip Resistor, Body 1.0x0.5mm, IPC High Density)
footprint RESC0402(1005)_M (Chip Resistor, Body 1.0x0.5mm, IPC Low Density)
footprint RESC0402(1005)_N (Chip Resistor, Body 1.0x0.5mm, IPC Medium Density)
pins: 1, 2

## RC0402FR-0718KL
designator R?, comment 18k
RES SMD 18K OHM 1% 1/16W 0402; Manufacturer: Yageo; Manufacturer Part Number: RC0402FR-0718KL; Power (Watts): 0.063W, 1/16W; Temperature Coefficient: ±100ppm/°C; Supplier 1: Digi-Key; RoHS: RoHS Compliant; Category: Resistors; Stock 1: 0; Pricing 1: 1=0.1, 10=0.018, 100=0.0076, 1000=0.00356, 2500=0.00313, 5000=0.00263 (USD); Packaging: Cut Tape (CT); Part Status: Active; Tolerance: ±1%; Composition: Thick Film; Features: Moisture Resistant; Operating Temperature: -55°C ~ 155°C; Package / Case: 0402 (1005 Metric); Supplier Device Package: 0402; Size / Dimension: 0.039" L x 0.020" W (1.00mm x 0.50mm); Height - Seated (Max): 0.016" (0.40mm); Failure Rate: -; ComponentLink1URL: http://www.yageo.com/documents/recent/PYu-RC_Group_51_RoHS_L_9.pdf; ComponentLink1Description: http://www.yageo.com/documents/recent/PYu-RC_Group_51_RoHS_L_9.pdf; Supplier Part Number 1: 311-18.0KLRCT-ND
footprint RESC0402(1005)_N (Chip Resistor, Body 1.0x0.5mm, IPC Medium Density)
footprint RESC0402(1005)_M (Chip Resistor, Body 1.0x0.5mm, IPC Low Density)
footprint RESC0402(1005)_L (Chip Resistor, Body 1.0x0.5mm, IPC High Density)
pins: 1, 2

## RC0402FR-0720RL
designator R?, comment 20
RES SMD 20 OHM 1% 1/16W 0402; Manufacturer: Yageo; Manufacturer Part Number: RC0402FR-0720RL; Power (Watts): 0.063W, 1/16W; Temperature Coefficient: ±100ppm/°C; Supplier 1: Digi-Key; RoHS: RoHS Compliant; Category: Resistors; Stock 1: 512120; Pricing 1: 1=0.1, 10=0.021, 100=0.0083, 1000=0.00375, 2500=0.00325, 5000=0.00269 (USD); Packaging: Cut Tape (CT); Part Status: Active; Tolerance: ±1%; Composition: Thick Film; Features: Moisture Resistant; Operating Temperature: -55°C ~ 155°C; Package / Case: 0402 (1005 Metric); Supplier Device Package: 0402; Size / Dimension: 0.039" L x 0.020" W (1.00mm x 0.50mm); Height - Seated (Max): 0.016" (0.40mm); Failure Rate: -; ComponentLink1URL: http://www.yageo.com/documents/recent/PYu-RC_Group_51_RoHS_L_9.pdf; ComponentLink1Description: http://www.yageo.com/documents/recent/PYu-RC_Group_51_RoHS_L_9.pdf; Supplier Part Number 1: 311-20LRCT-ND; Supplier 2: Mouser; Supplier Part Number 2: 603-RC0402FR-0720RL
footprint RESC0402(1005)_L (Chip Resistor, Body 1.0x0.5mm, IPC High Density)
footprint RESC0402(1005)_M (Chip Resistor, Body 1.0x0.5mm, IPC Low Density)
footprint RESC0402(1005)_N (Chip Resistor, Body 1.0x0.5mm, IPC Medium Density)
pins: 1, 2

## RC0402FR-0730KL
designator R?, comment 30k
RES SMD 30K OHM 1% 1/16W 0402; Manufacturer: Yageo; Manufacturer Part Number: RC0402FR-0730KL; Power (Watts): 0.063W, 1/16W; Temperature Coefficient: ±100ppm/°C; Supplier 1: Digi-Key; RoHS: RoHS Compliant; Category: Resistors; Stock 1: 3148260; Pricing 1: 1=0.1, 10=0.018, 100=0.0076, 1000=0.00356, 2500=0.00313, 5000=0.00263 (USD); Packaging: Cut Tape (CT); Part Status: Active; Tolerance: ±1%; Composition: Thick Film; Features: Moisture Resistant; Operating Temperature: -55°C ~ 155°C; Package / Case: 0402 (1005 Metric); Supplier Device Package: 0402; Size / Dimension: 0.039" L x 0.020" W (1.00mm x 0.50mm); Height - Seated (Max): 0.016" (0.40mm); Failure Rate: -; ComponentLink1URL: http://www.yageo.com/documents/recent/PYu-RC_Group_51_RoHS_L_9.pdf; ComponentLink1Description: http://www.yageo.com/documents/recent/PYu-RC_Group_51_RoHS_L_9.pdf; Supplier Part Number 1: 311-30.0KLRCT-ND
footprint RESC0402(1005)_N (Chip Resistor, Body 1.0x0.5mm, IPC Medium Density)
footprint RESC0402(1005)_M (Chip Resistor, Body 1.0x0.5mm, IPC Low Density)
footprint RESC0402(1005)_L (Chip Resistor, Body 1.0x0.5mm, IPC High Density)
pins: 1, 2

## RC0402FR-0768RL
designator R?, comment 68
RES SMD 68 OHM 1% 1/16W 0402; Manufacturer: Yageo; Manufacturer Part Number: RC0402FR-0768RL; Power (Watts): 0.063W, 1/16W; Temperature Coefficient: ±100ppm/°C; Supplier 1: Digi-Key; RoHS: RoHS Compliant; Category: Resistors; Stock 1: 0; Pricing 1: 1=0.1, 10=0.018, 100=0.0073, 1000=0.00329, 2500=0.00286, 5000=0.00236 (USD); Packaging: Cut Tape (CT); Part Status: Active; Tolerance: ±1%; Composition: Thick Film; Features: Moisture Resistant; Operating Temperature: -55°C ~ 155°C; Package / Case: 0402 (1005 Metric); Supplier Device Package: 0402; Size / Dimension: 0.039" L x 0.020" W (1.00mm x 0.50mm); Height - Seated (Max): 0.016" (0.40mm); Failure Rate: -; ComponentLink1URL: http://www.yageo.com/documents/recent/PYu-RC_Group_51_RoHS_L_9.pdf; ComponentLink1Description: http://www.yageo.com/documents/recent/PYu-RC_Group_51_RoHS_L_9.pdf; Supplier Part Number 1: 311-68.0LRCT-ND
footprint RESC0402(1005)_N (Chip Resistor, Body 1.0x0.5mm, IPC Medium Density)
footprint RESC0402(1005)_M (Chip Resistor, Body 1.0x0.5mm, IPC Low Density)
footprint RESC0402(1005)_L (Chip Resistor, Body 1.0x0.5mm, IPC High Density)
pins: 1, 2

## RC0402FR-07100KL
designator R?, comment 100k
RES SMD 100K OHM 1% 1/16W 0402; Manufacturer: Yageo; Manufacturer Part Number: RC0402FR-07100KL; Power (Watts): 0.063W, 1/16W; Temperature Coefficient: ±100ppm/°C; Supplier 1: Digi-Key; RoHS: RoHS Compliant; Category: Resistors; Stock 1: 20396473; Pricing 1: 1=0.1, 10=0.018, 100=0.0076, 1000=0.00356, 2500=0.00313, 5000=0.00263 (USD); Packaging: Cut Tape (CT); Part Status: Active; Tolerance: ±1%; Composition: Thick Film; Features: Moisture Resistant; Operating Temperature: -55°C ~ 155°C; Package / Case: 0402 (1005 Metric); Supplier Device Package: 0402; Size / Dimension: 0.039" L x 0.020" W (1.00mm x 0.50mm); Height - Seated (Max): 0.016" (0.40mm); Failure Rate: -; ComponentLink1URL: http://www.yageo.com/documents/recent/PYu-RC_Group_51_RoHS_L_9.pdf; ComponentLink1Description: http://www.yageo.com/documents/recent/PYu-RC_Group_51_RoHS_L_9.pdf; Supplier Part Number 1: 311-100KLRCT-ND
footprint RESC0402(1005)_L (Chip Resistor, Body 1.0x0.5mm, IPC High Density)
footprint RESC0402(1005)_M (Chip Resistor, Body 1.0x0.5mm, IPC Low Density)
footprint RESC0402(1005)_N (Chip Resistor, Body 1.0x0.5mm, IPC Medium Density)
pins: 1, 2

## RC0402FR-07180KL
designator R?, comment 180k
RES SMD 180K OHM 1% 1/16W 0402; Manufacturer: Yageo; Manufacturer Part Number: RC0402FR-07180KL; Power (Watts): 0.063W, 1/16W; Temperature Coefficient: ±100ppm/°C; Supplier 1: Digi-Key; RoHS: RoHS Compliant; Category: Resistors; Stock 1: 0; Pricing 1: 1=0.1, 10=0.018, 100=0.0076, 1000=0.00356, 2500=0.00313, 5000=0.00263 (USD); Packaging: Cut Tape (CT); Part Status: Active; Tolerance: ±1%; Composition: Thick Film; Features: Moisture Resistant; Operating Temperature: -55°C ~ 155°C; Package / Case: 0402 (1005 Metric); Supplier Device Package: 0402; Size / Dimension: 0.039" L x 0.020" W (1.00mm x 0.50mm); Height - Seated (Max): 0.016" (0.40mm); Failure Rate: -; ComponentLink1URL: http://www.yageo.com/documents/recent/PYu-RC_Group_51_RoHS_L_9.pdf; ComponentLink1Description: http://www.yageo.com/documents/recent/PYu-RC_Group_51_RoHS_L_9.pdf; Supplier Part Number 1: 311-180KLRCT-ND
footprint RESC0402(1005)_N (Chip Resistor, Body 1.0x0.5mm, IPC Medium Density)
footprint RESC0402(1005)_M (Chip Resistor, Body 1.0x0.5mm, IPC Low Density)
footprint RESC0402(1005)_L (Chip Resistor, Body 1.0x0.5mm, IPC High Density)
pins: 1, 2

## RC0402FR-07200KL
designator R?, comment 200k
RES SMD 200K OHM 1% 1/16W 0402; Manufacturer: Yageo; Manufacturer Part Number: RC0402FR-07200KL; Power (Watts): 0.063W, 1/16W; Temperature Coefficient: ±100ppm/°C; Supplier 1: Digi-Key; RoHS: RoHS Compliant; Category: Resistors; Stock 1: 7816895; Pricing 1: 1=0.1, 10=0.018, 100=0.0076, 1000=0.00356, 2500=0.00313, 5000=0.00263 (USD); Packaging: Cut Tape (CT); Part Status: Active; Tolerance: ±1%; Composition: Thick Film; Features: Moisture Resistant; Operating Temperature: -55°C ~ 155°C; Package / Case: 0402 (1005 Metric); Supplier Device Package: 0402; Size / Dimension: 0.039" L x 0.020" W (1.00mm x 0.50mm); Height - Seated (Max): 0.016" (0.40mm); Failure Rate: -; ComponentLink1URL: http://www.yageo.com/documents/recent/PYu-RC_Group_51_RoHS_L_9.pdf; ComponentLink1Description: http://www.yageo.com/documents/recent/PYu-RC_Group_51_RoHS_L_9.pdf; Supplier Part Number 1: 311-200KLRCT-ND
footprint RESC0402(1005)_L (Chip Resistor, Body 1.0x0.5mm, IPC High Density)
footprint RESC0402(1005)_M (Chip Resistor, Body 1.0x0.5mm, IPC Low Density)
footprint RESC0402(1005)_N (Chip Resistor, Body 1.0x0.5mm, IPC Medium Density)
pins: 1, 2

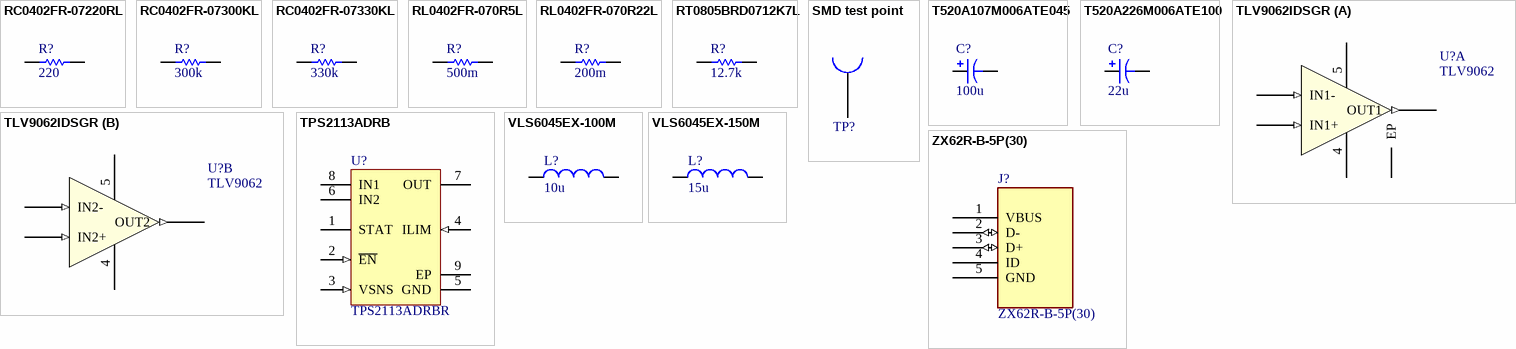
[diagram p1: symbols RC0402FR-07220RL to ZX62R-B-5P(30)]

## RC0402FR-07220RL
designator R?, comment 220
RES SMD 220 OHM 1% 1/16W 0402; Manufacturer: Yageo; Manufacturer Part Number: RC0402FR-07220RL; Resistance: 220R; Power Rating: 62.5mW; Voltage Rating: 50V; Temperature Coefficient: 100ppm/°C; Max Power Dissipation: 63mW; Supplier 1: Digi-Key; Stock 1: 5150470; Pricing 1: 1=0.1, 10=0.018, 100=0.0073, 1000=0.00329, 2500=0.00286, 5000=0.00236 (USD); Case/Package: 0402; Number of Pins: 2; Case Code (Imperial): 0402; Case Code (Metric): 1005; Min Operating Temperature: -55°C; Max Operating Temperature: 155°C; Tolerance: 1%; Packaging: Tape and Reel; Voltage Rating (DC): 50V; Termination: SMD/SMT; Composition: Thick Film; Military Standard: Not; Package Quantity: 1; Number of Terminations: 2; Features: Moisture Resistant; Length: 1mm; Height: 0.016inch; Width: 0.02inch; Depth: 0.5mm; REACH SVHC: No SVHC; Lead Free: Lead Free; ComponentLink1URL: http://www.yageo.com/documents/recent/PYu-RC_Group_51_RoHS_L_9.pdf; ComponentLink1Description: http://www.yageo.com/documents/recent/PYu-RC_Group_51_RoHS_L_9.pdf; ComponentLink2URL: http://documents.rs-components.com/techlib://itc_doclist_GB.htm?stockno=6186324; ComponentLink2Description: http://documents.rs-components.com/techlib://itc_doclist_GB.htm?stockno=6186324; ComponentLink3URL: http://www.yageo.com/documents/recent/PYu-RC0402_51_RoHS_L_6_r.pdf; ComponentLink3Description: http://www.yageo.com/documents/recent/PYu-RC0402_51_RoHS_L_6_r.pdf; Supplier Part Number 1: 311-220LRCT-ND
footprint RESC0402(1005)_N (Chip Resistor, Body 1.0x0.5mm, IPC Medium Density)
footprint Model Name (Footprint not found)
footprint RESC0402(1005)_M (Chip Resistor, Body 1.0x0.5mm, IPC Low Density)
footprint RESC0402(1005)_L (Chip Resistor, Body 1.0x0.5mm, IPC High Density)
pins: 1, 2

## RC0402FR-07300KL
designator R?, comment 300k
RES SMD 300K OHM 1% 1/16W 0402; Manufacturer: Yageo; Manufacturer Part Number: RC0402FR-07300KL; Power (Watts): 0.063W, 1/16W; Temperature Coefficient: ±100ppm/°C; Supplier 1: Digi-Key; RoHS: RoHS Compliant; Category: Resistors; Stock 1: 1397022; Pricing 1: 1=0.1, 10=0.018, 100=0.0076, 1000=0.00356, 2500=0.00313, 5000=0.00263 (USD); Packaging: Cut Tape (CT); Part Status: Active; Tolerance: ±1%; Composition: Thick Film; Features: Moisture Resistant; Operating Temperature: -55°C ~ 155°C; Package / Case: 0402 (1005 Metric); Supplier Device Package: 0402; Size / Dimension: 0.039" L x 0.020" W (1.00mm x 0.50mm); Height - Seated (Max): 0.016" (0.40mm); Failure Rate: -; ComponentLink1URL: http://www.yageo.com/documents/recent/PYu-RC_Group_51_RoHS_L_9.pdf; ComponentLink1Description: http://www.yageo.com/documents/recent/PYu-RC_Group_51_RoHS_L_9.pdf; Supplier Part Number 1: 311-300KLRCT-ND
footprint RESC0402(1005)_N (Chip Resistor, Body 1.0x0.5mm, IPC Medium Density)
footprint RESC0402(1005)_M (Chip Resistor, Body 1.0x0.5mm, IPC Low Density)
footprint RESC0402(1005)_L (Chip Resistor, Body 1.0x0.5mm, IPC High Density)
pins: 1, 2